# Altium footprint library PcbLib1.PcbLib: 38 footprints (part 3 of 3)
Each footprint in its own frame and in the unit in brackets; x right, y up, seen from the top. Pads: shape width x height; smd on the part's side, far side on the other; paste and mask are expansions set on the pad; w line width, h text height; cw(c..) or ccw(c..) is an arc to the next point about the centre after c.
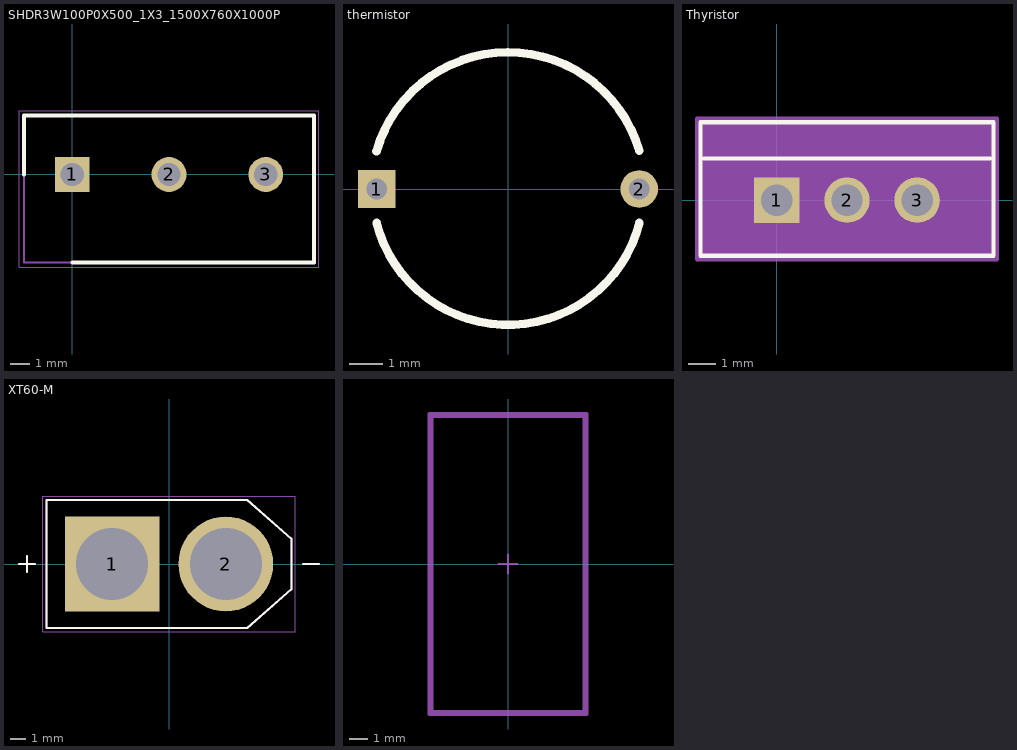
[diagram p2: the footprints below, top view; thin cyan lines are the x and y axes]

## SHDR3W100P0X500_1X3_1500X760X1000P [mm]
pads (3):
  rect 1.8x1.8 hole 1.2: 1(0,0)
  round 1.8 hole 1.2: 2(5,0) 3(10,0)
Top Overlay:
  lines w0.2: -2.5,0 -2.5,3.05 12.5,3.05 12.5,-4.55 0,-4.55
Mechanical 13:
  lines w0.1: -2.5,-4.55 -2.5,3.05 12.5,3.05 12.5,-4.55 -2.5,-4.55
Mechanical 15:
  lines w0.05: -2.75,-4.8 -2.75,3.3 12.75,3.3 12.75,-4.8 -2.75,-4.8
3D body "0395430603.stp": height 9.67, standoff -3.03, extent -2.506,-3.312 12.506,4.308

## Solder Bridge - duplicate [mm]

## thermistor [mil]
pads (2):
  rect 44x44 / inner round 44 / far side rect 44x44 hole 24: 1(-153.54,0)
  round 44 hole 24: 2(153.54,0)
Top Overlay:
  lines w10: -153.92,43.98 cw(c0,0) 153.73,44.63 ; -153.86,-39.71 ccw(c0,0) 153.86,-39.71

## Thyristor [mil]
pads (3):
  rect 65x65 hole 45 paste-99999 mask+0: 1(0,0)
  round 65 hole 45 paste-99999 mask+0: 2(100.39,0) 3(200.79,0)
Top Overlay:
  lines w6: -104.11,59.5 304.89,59.5 ; -109.11,-79.5 -109.11,111.5 309.89,111.5 309.89,-79.5 -109.11,-79.5
Mechanical 13:
  circle w1: c-94.11,-64.5 r8
  lines w1: -104.11,54.5 304.89,54.5 ; -104.11,-74.5 -104.11,106.5 304.89,106.5 304.89,-74.5 -104.11,-74.5
  text "TAB" at 81.64,68 h25
Mechanical 15:
  region: 314.89,116.5 -114.11,116.5 -114.11,-84.5 314.89,-84.5
  lines w6: -114.11,-84.5 314.89,-84.5 314.89,116.5 -114.11,116.5 -114.11,-84.5
3D body "TN4015H-6I_STM.step": height 774.02, standoff -247.99, extent -104.09,-74.49 304.88,106.5

## XT60-M [mm]
height 16
pads (2):
  rect 6x6 / inner round 6 / far side rect 6x6 hole 4.55: 1(-3.6,0)
  round 6 hole 4.55: 2(3.6,0)
Top Overlay:
  lines w0.127: -9.5,0 -8.5,0 ; -9,-0.5 -9,0.5 ; 8.5,0 9.5,0 ; -7.75,-4.05 -7.75,4.05 4.95,4.05 7.75,1.6 7.75,-1.6 4.95,-4.05 -7.75,-4.05
Mechanical 13:
  lines w0.127: -9.5,0 -8.5,0 ; -9,-0.5 -9,0.5 ; 8.5,0 9.5,0 ; -7.75,-4.05 -7.75,4.05 4.95,4.05 7.75,1.6 7.75,-1.6 4.95,-4.05 -7.75,-4.05
Mechanical 15:
  lines w0.05: -8,-4.3 8,-4.3 8,4.3 -8,4.3 -8,-4.3
3D body "step_temp.STEP": height 16, standoff -4.5, extent -7.75,-4.05 7.75,4.05

##  [mm]
Top 3D Body:
  lines w0.2: -4.064,-7.868 4.064,-7.868 4.064,7.868 -4.064,7.868 -4.064,-7.868
Top Courtyard:
  lines w0.2: -4.164,-7.967 4.164,-7.967 4.164,7.967 -4.164,7.967 -4.164,-7.967
Top Assembly:
  lines w0.2: -4.164,-7.967 4.164,-7.967 4.164,7.967 -4.164,7.967 -4.164,-7.967
Top Component Center:
  lines w0.1: -0.5,0 0.5,0 ; 0,-0.5 0,0.5
3D body "Conn_SparkFun_PRT-10474_eec.STEP": height 0.25, standoff 0, extent -4.164,-7.967 4.164,7.967